# Altium schematic symbol library MCU_AnalogDevices.SchLib: 3 symbols
Pins are listed as number, name and electrical type; pins without a type are passive.

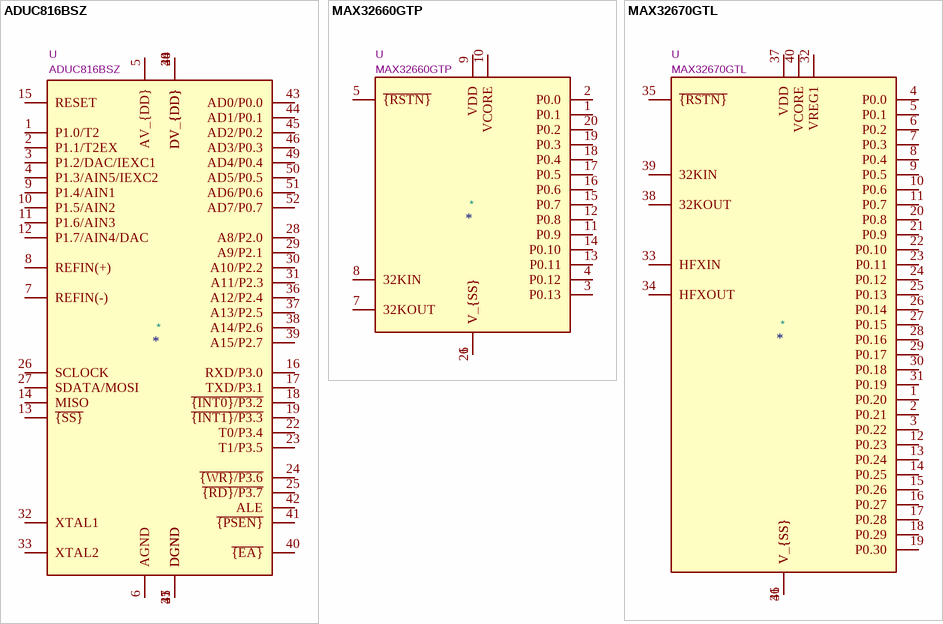
[diagram p0: symbols ADUC816BSZ to MAX32670GTL]

## ADUC816BSZ
designator *  value ADUC816BSZ  Reference: U
MicroConverter, Dual-Channel 16-bit ADCs with Embedded Flash MCU, 12-bit DAC, 256 Bytes User RAM, 8KB Flash/EE Program Memory, 640 Bytes Flash/EE Data Memory, PQFP-52 (MQFP-52, case S-52-2); ki_keywords: 8051-CORE microcontroller EEPROM sigma-delta-ADC UART I2C SPI WDT; ki_fp_filters: *MO112AC1*PQFP*10x10mm*P0.65mm*; Footprint: Package_QFP:MO112AC1_PQFP-52_10x10mm_P0.65mm; Datasheet: https://www.analog.com/static/imported-files/data_sheets/ADUC816.pdf; Description_: MicroConverter, Dual-Channel 16-bit ADCs with Embedded Flash MCU, 12-bit DAC, 256 Bytes User RAM, 8KB Flash/EE Program Memory, 640 Bytes Flash/EE Data Memory, PQFP-52 (MQFP-52, case S-52-2)
pins: 1 P1.0/T2, 2 P1.1/T2EX, 3 P1.2/DAC/IEXC1, 4 P1.3/AIN5/IEXC2, 5 AV_{DD}, 6 AGND, 7 REFIN(-), 8 REFIN(+), 9 P1.4/AIN1, 10 P1.5/AIN2, 11 P1.6/AIN3, 12 P1.7/AIN4/DAC, 13 ~{{SS}}, 14 MISO, 15 RESET, 16 RXD/P3.0, 17 TXD/P3.1, 18 ~{{INT0}/P3.2}, 19 ~{{INT1}/P3.3}, 20 DV_{DD}, 21 DGND, 22 T0/P3.4, 23 T1/P3.5, 24 ~{{WR}/P3.6}, 25 ~{{RD}/P3.7}, 26 SCLOCK, 27 SDATA/MOSI, 28 A8/P2.0, 29 A9/P2.1, 30 A10/P2.2, 31 A11/P2.3, 32 XTAL1, 33 XTAL2, 34 DV_{DD}, 35 DGND, 36 A12/P2.4, 37 A13/P2.5, 38 A14/P2.6, 39 A15/P2.7, 40 ~{{EA}}, 41 ~{{PSEN}}, 42 ALE, 43 AD0/P0.0, 44 AD1/P0.1, 45 AD2/P0.2, 46 AD3/P0.3, 47 DGND, 48 DV_{DD}, 49 AD4/P0.4, 50 AD5/P0.5, 51 AD6/P0.6, 52 AD7/P0.7

## MAX32660GTP
designator *  value MAX32660GTP  Reference: U
Cortex-M4 Microcontroller, TQFN-20; ki_keywords: ARM 32-bit Cortex-M4 Maxim ADI Darwin; ki_fp_filters: TQFN*1EP*4x4mm*P0.5mm*EP2.7x2.7mm*; Footprint: Package_DFN_QFN:TQFN-20-1EP_4x4mm_P0.5mm_EP2.7x2.7mm; Datasheet: https://www.analog.com/media/en/technical-documentation/data-sheets/max32660.pdf; Description_: Cortex-M4 Microcontroller, TQFN-20
pins: 1 P0.1, 2 P0.0, 3 P0.13, 4 P0.12, 5 ~{{RSTN}}, 6 V_{SS}, 7 32KOUT, 8 32KIN, 9 VDD, 10 VCORE, 11 P0.9, 12 P0.8, 13 P0.11, 14 P0.10, 15 P0.7, 16 P0.6, 17 P0.5, 18 P0.4, 19 P0.3, 20 P0.2, 21 V_{SS}

## MAX32670GTL
designator *  value MAX32670GTL  Reference: U
Cortex-M4 Microcontroller, TQFN-40; ki_keywords: ARM 32-bit Cortex-M4 Maxim ADI Darwin; ki_fp_filters: TQFN*1EP*5x5mm*P0.4mm*EP3.5x3.5mm*; Footprint: Package_DFN_QFN:TQFN-40-1EP_5x5mm_P0.4mm_EP3.5x3.5mm; Datasheet: https://www.analog.com/media/en/technical-documentation/data-sheets/max32670-max32671.pdf; Description_: Cortex-M4 Microcontroller, TQFN-40
pins: 1 P0.20, 2 P0.21, 3 P0.22, 4 P0.0, 5 P0.1, 6 P0.2, 7 P0.3, 8 P0.4, 9 P0.5, 10 P0.6, 11 P0.7, 12 P0.23, 13 P0.24, 14 P0.25, 15 P0.26, 16 P0.27, 17 P0.28, 18 P0.29, 19 P0.30, 20 P0.8, 21 P0.9, 22 P0.10, 23 P0.11, 24 P0.12, 25 P0.13, 26 P0.14, 27 P0.15, 28 P0.16, 29 P0.17, 30 P0.18, 31 P0.19, 32 VREG1, 33 HFXIN, 34 HFXOUT, 35 ~{{RSTN}}, 36 V_{SS}, 37 VDD, 38 32KOUT, 39 32KIN, 40 VCORE, 41 V_{SS}